# EAGLE library part SOIC8_INAMP (library eric-custom)
Generic single supply instrumentation amplifier for SO8 package. Based off of AD8221 inamp package
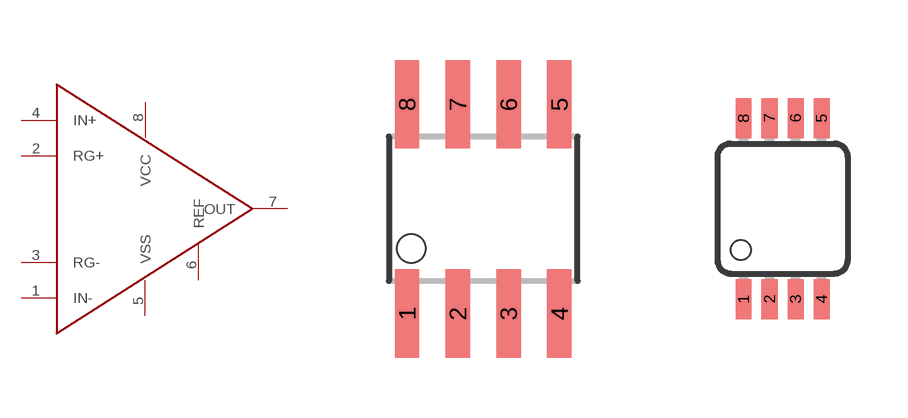
[diagram p10: symbol with the pads of SO08; footprints SO08, MSOP08]

Designator prefix -

## SOIC8_INAMPSO08  [SO08]
1  IN-
2  RG+
3  RG-
4  IN+
5  VSS
6  REF
7  OUT
8  VCC

## SOIC8_INAMPMSOP  [MSOP08]
Pads as for SO08

## Footprint SO08 (pad centres in mm)
Small Outline Package
smd 0.61 x 2.21: 1 -1.905,-2.616; 2 -0.635,-2.616; 3 0.635,-2.616; 4 1.905,-2.616; 5 1.905,2.616; 6 0.635,2.616; 7 -0.635,2.616; 8 -1.905,2.616

## Footprint MSOP08 (pad centres in mm)
8-Lead micro SO (RM-8) Source: http://www.analog.com/UploadedFiles/Data_Sheets/703465986AD8611_2_0.pdf
smd 0.4 x 1: 1 -0.976,-2.263; 2 -0.326,-2.263; 3 0.324,-2.263; 4 0.974,-2.263; 5 0.974,2.262; 6 0.324,2.262; 7 -0.326,2.262; 8 -0.976,2.262